# EAGLE library part STEPDOWN-XL4016 (library alvie)
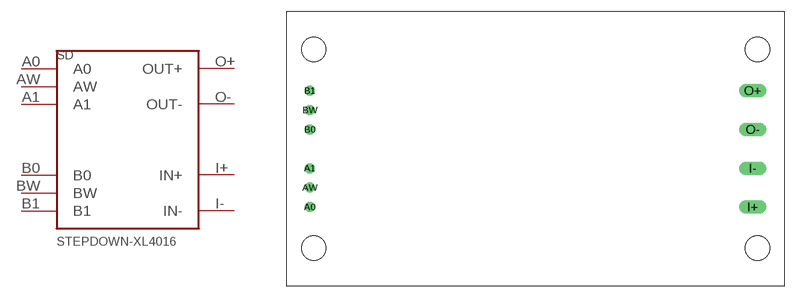
[diagram p15: symbol with the pads of STEPDOWN-XL4016; footprint STEPDOWN-XL4016]

Designator prefix SD

## STEPDOWN-XL4016  [STEPDOWN-XL4016]
A0  A0  pas
A1  A1  pas
AW  AW  pas
B0  B0  pas
B1  B1  pas
BW  BW  pas
I+  IN+  pas
I-  IN-  pas
O+  OUT+  pas
O-  OUT-  pas

## Footprint STEPDOWN-XL4016 (pad centres in mm)
drill 0.8: A0 -29.5,-7.62; A1 -29.5,-2.54; AW -29.5,-5.08; B0 -29.5,2.54; B1 -29.5,7.62; BW -29.5,5.08
drill 1.194 long: I+ 28.4,-7.62; I- 28.4,-2.54; O+ 28.4,7.62; O- 28.4,2.54
hole 3.2 at -29,-13
hole 3.2 at -29,13
hole 3.2 at 29,-13
hole 3.2 at 29,13